# Altium schematic symbol library 接插件.SCHLIB: 67 symbols
Pins are listed as number, name and electrical type; pins without a type are passive.

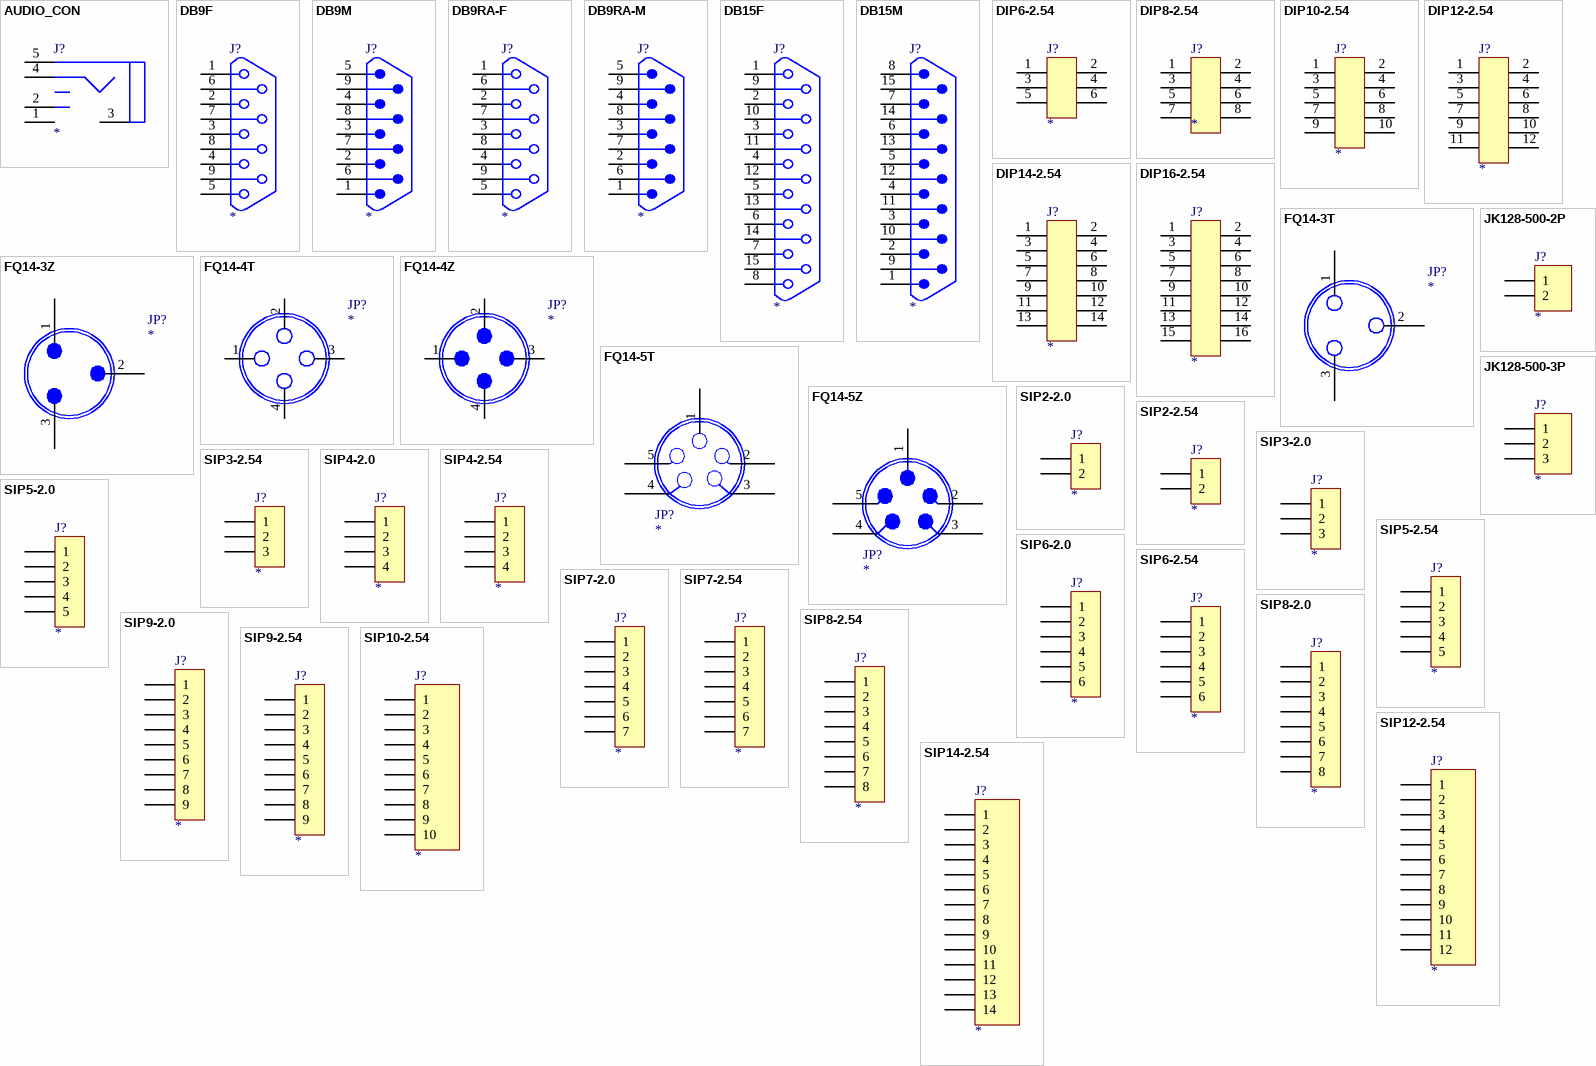
[diagram p0: symbols AUDIO_CON to SIP14-2.54]

## AUDIO_CON
designator J?
J?
pins: 1, 2, 3, 4, 5

## DB9F
designator J?
CN-DB9F
footprint DB9F
footprint DB9M
footprint DB9RA-F
footprint DB9RA-M
pins: 1, 2, 3, 4, 5, 6, 7, 8, 9

## DB9M
designator J?
CN-DB9M
footprint DB9M
pins: 1 5, 2 4, 3, 4 2, 5 1, 6 9, 7 8, 8 7, 9 6

## DB9RA-F
designator J?
CN-DB9-507
footprint DB9RA-F
pins: 1, 2, 3, 4, 5, 6, 7, 8, 9

## DB9RA-M
designator J?
CN-DB9-505
footprint DB9RA-M
pins: 1 5, 2 4, 3, 4 2, 5 1, 6 9, 7 8, 8 7, 9 6

## DB15F
designator J?
CN-DB15F
footprint DB15F
pins: 1, 2, 3, 4, 5, 6, 7, 8, 9, 10, 11, 12, 13, 14, 15

## DB15M
designator J?
CN-DB15M
footprint DB15M
pins: 1, 2, 3, 4, 5, 6, 7, 8, 9, 10, 11, 12, 13, 14, 15

## DIP6-2.54
designator J?
CN-DIP6-2.54
footprint DIP6-2.54
pins: 1, 2, 3, 4, 5, 6

## DIP8-2.54
designator J?
CN-DIP8-2.54
footprint DIP8-2.54
pins: 1, 2, 3, 4, 5, 6, 7, 8

## DIP10-2.54
designator J?
CN-DIP10-2.54
footprint DIP10-2.54
pins: 1, 2, 3, 4, 5, 6, 7, 8, 9, 10

## DIP12-2.54
designator J?
CN-DIP12-2.54
footprint DIP12-2.54
pins: 1, 2, 3, 4, 5, 6, 7, 8, 9, 10, 11, 12

## DIP14-2.54
designator J?
CN-DIP14-2.54
footprint DIP14-2.54
pins: 1, 2, 3, 4, 5, 6, 7, 8, 9, 10, 11, 12, 13, 14

## DIP16-2.54
designator J?
CN-DIP16-2.54
footprint DIP16-2.54
pins: 1, 2, 3, 4, 5, 6, 7, 8, 9, 10, 11, 12, 13, 14, 15, 16

## FQ14-3T
designator JP?
CN-FQ14-3T
pins: 1, 2, 3

## FQ14-3Z
designator JP?
CN-FQ14-3Z
pins: 1, 2, 3

## FQ14-4T
designator JP?
CN-FQ14-4T
pins: 1, 2, 3, 4

## FQ14-4Z
designator JP?
CN-FQ14-4Z
pins: 1, 2, 3, 4

## FQ14-5T
designator JP?
CN-FQ14-5T
pins: 1, 2, 3, 4, 5

## FQ14-5Z
designator JP?
CN-FQ14-5Z
pins: 1, 2, 3, 4, 5

## JK128-500-2P
designator J?
CN-JK128-500-2P
footprint JK128-500-2P
pins: 1, 2

## JK128-500-3P
designator J?
CN-JK128-500-3P
footprint JK128-500-3P
pins: 1, 2, 3

## SIP2-2.0
designator J?
CN-SIP2-2.0
footprint SIP2-2.0
pins: 1, 2

## SIP2-2.54
designator J?
CN-SIP2-2.54
footprint SIP2-2.54
pins: 1, 2

## SIP3-2.0
designator J?
CN-SIP3-2.0
footprint SIP3-2.0
pins: 1, 2, 3

## SIP3-2.54
designator J?
CN-SIP3-2.54
footprint SIP3-2.54
pins: 1, 2, 3

## SIP4-2.0
designator J?
CN-SIP4-2.0
footprint SIP4-2.0
pins: 1, 2, 3, 4

## SIP4-2.54
designator J?
CN-SIP4-2.54
footprint SIP4-2.54
pins: 1, 2, 3, 4

## SIP5-2.0
designator J?
CN-SIP5-2.0
footprint SIP5-2.0
pins: 1, 2, 3, 4, 5

## SIP5-2.54
designator J?
CN-SIP5-2.54
footprint SIP5-2.54
pins: 1, 2, 3, 4, 5

## SIP6-2.0
designator J?
CN-SIP6-2.0
footprint SIP6-2.0
pins: 1, 2, 3, 4, 5, 6

## SIP6-2.54
designator J?
CN-SIP6-2.54
footprint SIP6-2.54
pins: 1, 2, 3, 4, 5, 6

## SIP7-2.0
designator J?
CN-SIP7-2.0
footprint SIP7-2.0
pins: 1, 2, 3, 4, 5, 6, 7

## SIP7-2.54
designator J?
CN-SIP7-2.54
footprint SIP7-2.54
pins: 1, 2, 3, 4, 5, 6, 7

## SIP8-2.0
designator J?
CN-SIP8-2.0
footprint SIP8-2.0
pins: 1, 2, 3, 4, 5, 6, 7, 8

## SIP8-2.54
designator J?
CN-SIP8-2.54
footprint SIP8-2.54
pins: 1, 2, 3, 4, 5, 6, 7, 8

## SIP9-2.0
designator J?
CN-SIP9-2.0
footprint SIP9-2.0
pins: 1, 2, 3, 4, 5, 6, 7, 8, 9

## SIP9-2.54
designator J?
CN-SIP9-2.54
footprint SIP9-2.54
pins: 1, 2, 3, 4, 5, 6, 7, 8, 9

## SIP10-2.54
designator J?
CN-SIP10-2.54
footprint SIP10-2.54
pins: 1, 2, 3, 4, 5, 6, 7, 8, 9, 10

## SIP12-2.54
designator J?
CN-SIP12-2.54
footprint SIP12-2.54
pins: 1, 2, 3, 4, 5, 6, 7, 8, 9, 10, 11, 12

## SIP14-2.54
designator J?
CN-SIP14-2.54
footprint SIP14-2.54
pins: 1, 2, 3, 4, 5, 6, 7, 8, 9, 10, 11, 12, 13, 14

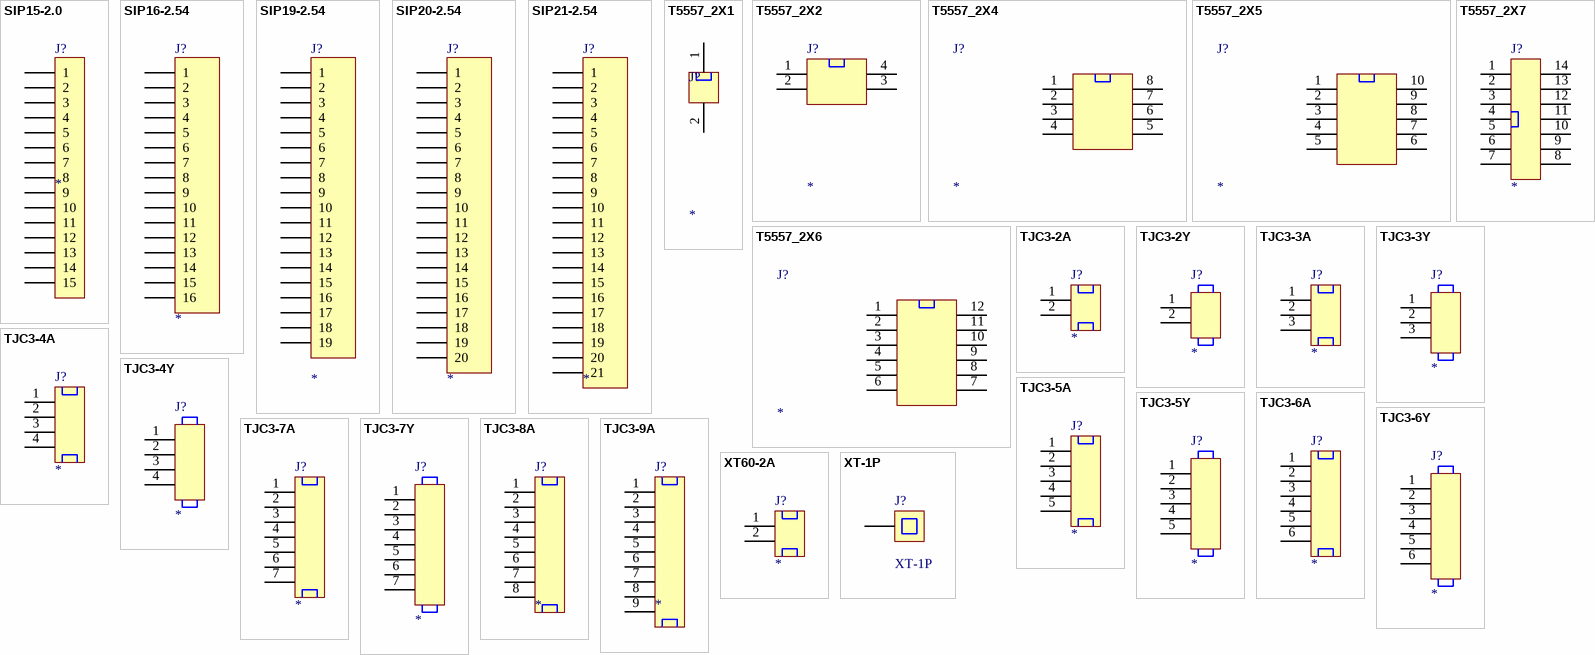
[diagram p1: symbols SIP15-2.0 to XT-1P]

## SIP15-2.0
designator J?
CN-SIP7-2.0
footprint SIP15-2.0 (Footprint not found)
pins: 1, 2, 3, 4, 5, 6, 7, 8, 9, 10, 11, 12, 13, 14, 15

## SIP16-2.54
designator J?
CN-SIP16-2.54
footprint SIP16-2.54
pins: 1, 2, 3, 4, 5, 6, 7, 8, 9, 10, 11, 12, 13, 14, 15, 16

## SIP19-2.54
designator J?
CN-SIP20-2.54
footprint SIP20-2.54
pins: 1, 2, 3, 4, 5, 6, 7, 8, 9, 10, 11, 12, 13, 14, 15, 16, 17, 18, 19

## SIP20-2.54
designator J?
CN-SIP20-2.54
footprint SIP20-2.54
pins: 1, 2, 3, 4, 5, 6, 7, 8, 9, 10, 11, 12, 13, 14, 15, 16, 17, 18, 19, 20

## SIP21-2.54
designator J?
CN-SIP21-2.54
footprint SIP20-2.54
pins: 1, 2, 3, 4, 5, 6, 7, 8, 9, 10, 11, 12, 13, 14, 15, 16, 17, 18, 19, 20, 20 21

## T5557_2X1
designator J?
接插件
footprint 1X2-5557
pins: 1, 2

## T5557_2X2
designator J?
接插件
footprint 2X2-5557
pins: 1, 2, 3, 4

## T5557_2X4
designator J?
接插件
footprint T5557_2X4W (Footprint not found)
pins: 1, 2, 3, 4, 5, 6, 7, 8

## T5557_2X5
designator J?
接插件
footprint 5557_2X5-s
pins: 1, 2, 3, 4, 5, 6, 7, 8, 9, 10

## T5557_2X6
designator J?
接插件
footprint 5557_2X6-s
pins: 1, 2, 3, 4, 5, 6, 7, 8, 9, 10, 11, 12

## T5557_2X7
designator J?
接插件
footprint T5557_2X7W (Footprint not found)
footprint 5557-2X7
pins: 1, 2, 3, 4, 5, 6, 7, 8, 9, 10, 11, 12, 13, 14

## TJC3-2A
designator J?
CN-TJC3-2A
footprint TJC3-2A
footprint TJC3-2A - 2.0
pins: 1, 2 2OUT

## TJC3-2Y
designator J?
CN-TJC3-2Y
pins: 1, 2

## TJC3-3A
designator J?
CN-TJC3-3A
footprint TJC3-3A
pins: 1, 2, 3

## TJC3-3Y
designator J?
CN-TJC3-3Y
pins: 1, 2, 3

## TJC3-4A
designator J?
CN-TJC3-4A
footprint TJC3-4A
pins: 1, 2, 3, 4

## TJC3-4Y
designator J?
CN-TJC3-4Y
pins: 1, 2, 3, 4

## TJC3-5A
designator J?
CN-TJC3-5A
footprint TJC3-5A
pins: 1, 2, 3, 4, 5

## TJC3-5Y
designator J?
CN-TJC3-5Y
pins: 1, 2, 3, 4, 5

## TJC3-6A
designator J?
CN-TJC3-6A
footprint TJC3-6A
pins: 1, 2, 3, 4, 5, 6

## TJC3-6Y
designator J?
CN-TJC3-6Y
pins: 1, 2, 3, 4, 5, 6

## TJC3-7A
designator J?
CN-TJC3-7A
footprint TJC3-7A
pins: 1, 2, 3, 4, 5, 6, 7

## TJC3-7Y
designator J?
CN-TJC3-7Y
pins: 1, 2, 3, 4, 5, 6, 7

## TJC3-8A
designator J?
接插件
footprint TJC3-8A
pins: 1, 2, 3, 4, 5, 6, 7, 8

## TJC3-9A
designator J?
接插件
footprint TJC3-9A
pins: 1, 2, 3, 4, 5, 6, 7, 8, 9

## XT60-2A
designator J?
接插件
footprint 田宫T60
footprint XT60-W2
pins: 1, 2 2OUT

## XT-1P
designator J?
接插件
footprint 1P-7.2x7x4.8-6.6
footprint 1P-8x8x6.2-7
footprint 1P-6.5x8.5x10-5x7
footprint 固定孔
footprint TPK3.0 (测试孔)
footprint 1P-11x11
footprint 1P-14x10
footprint TPK1.0 (测试孔)
footprint 1P-M4-8
footprint TP1.0 (测试点)
pins: 1